# Altium schematic symbol library IC Power.SchLib: 3 symbols
Pins are listed as number, name and electrical type; pins without a type are passive.

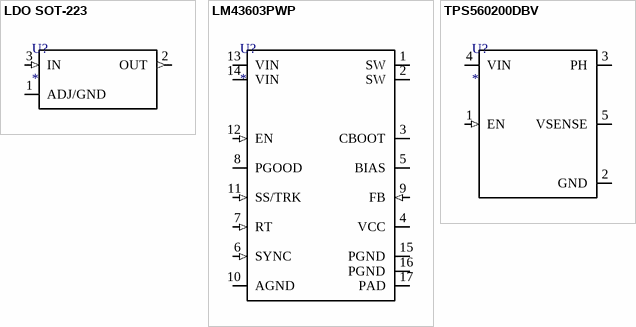
[diagram p0: symbols LDO SOT-223 to TPS560200DBV]

## LDO SOT-223
designator U?
LDO; Name: *
pins: 1 ADJ/GND (power), 2 OUT (out), 3 IN (in)

## LM43603PWP
designator U?
Name: *
pins: 1 SW (power), 2 SW (power), 3 CBOOT (power), 4 VCC (power), 5 BIAS (power), 6 SYNC (in), 7 RT (in), 8 PGOOD (oc), 9 FB (in), 10 AGND (power), 11 SS/TRK (in), 12 EN (in), 13 VIN (power), 14 VIN (power), 15 PGND (power), 16 PGND (power), 17 PAD (power)

## TPS560200DBV
designator U?
Synchronous Step-Down; Name: *
pins: 1 EN (in), 2 GND (power), 3 PH (power), 4 VIN (power), 5 VSENSE